# Altium footprint library IDC Connector.PcbLib: 112 footprints (part 4 of 8)
Each footprint in its own frame and in the unit in brackets; x right, y up, seen from the top. Pads: shape width x height; smd on the part's side, far side on the other; paste and mask are expansions set on the pad; w line width, h text height; cw(c..) or ccw(c..) is an arc to the next point about the centre after c.
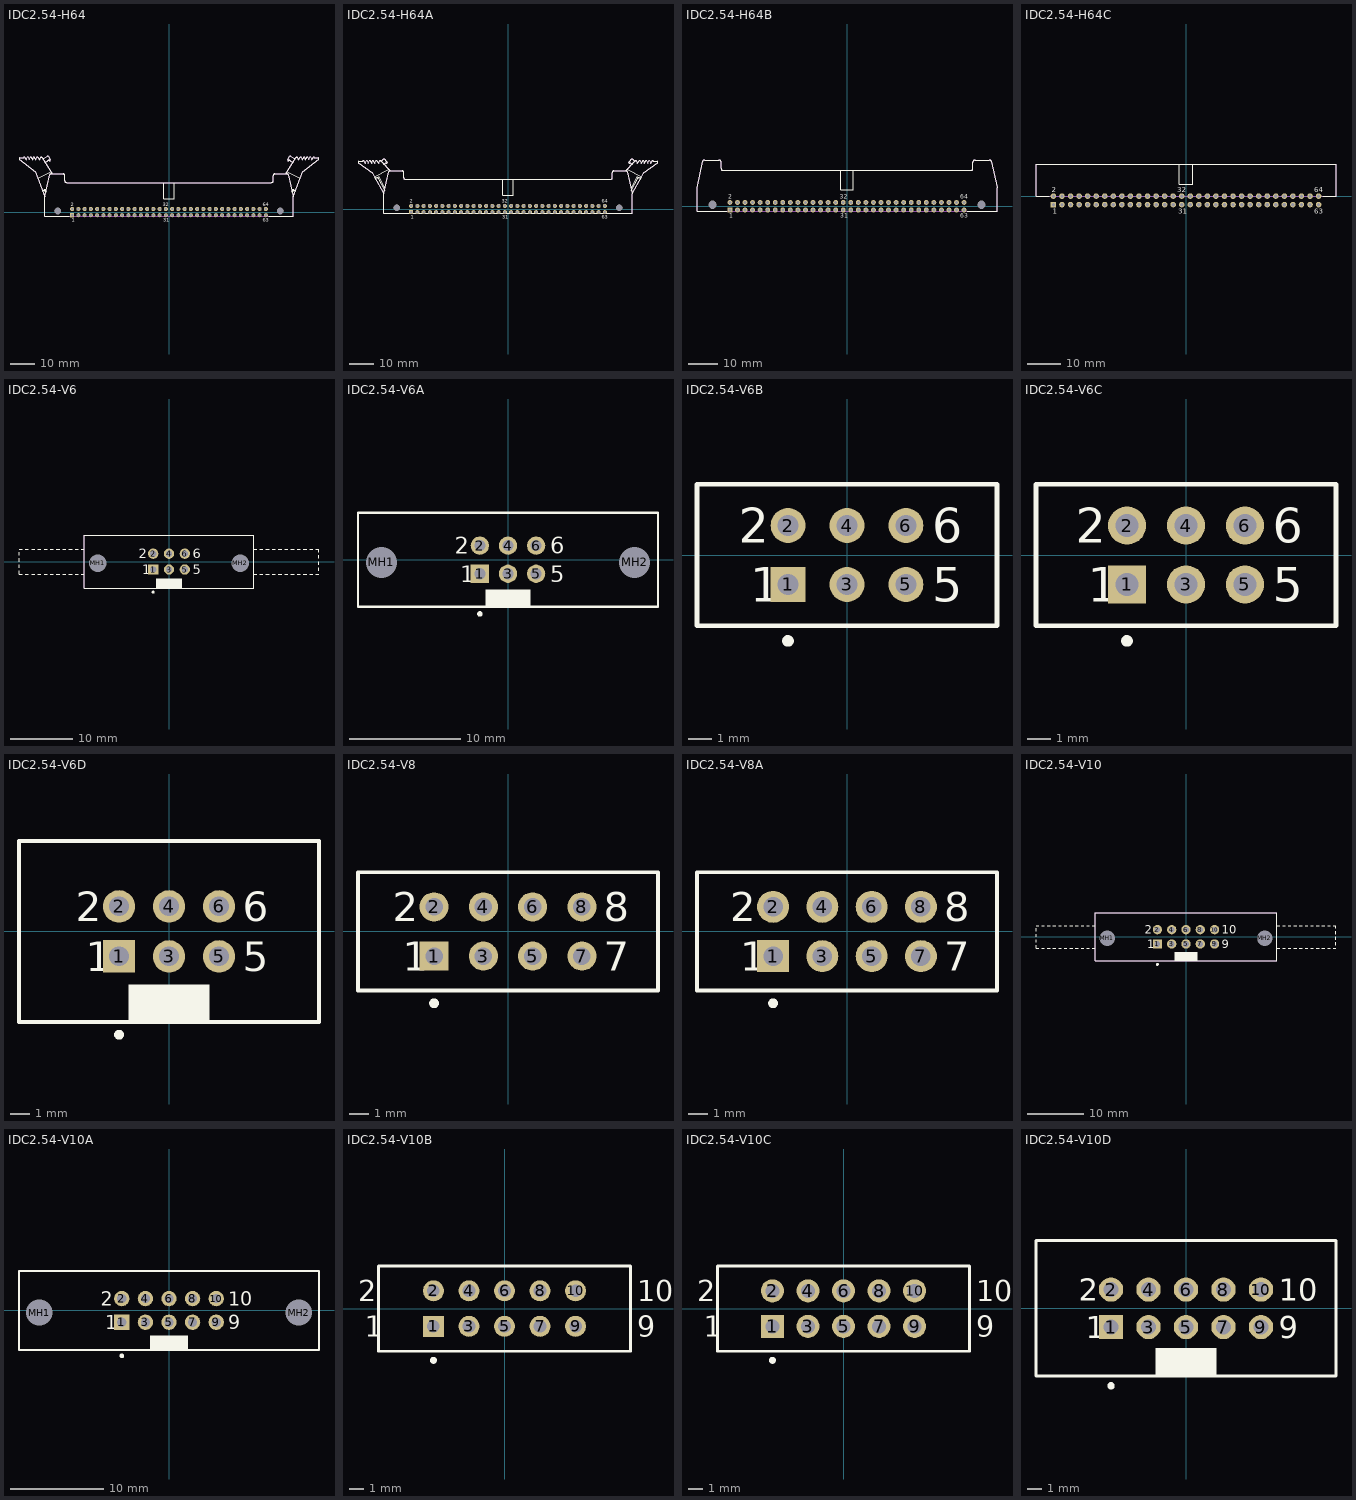
[diagram p3: the footprints below, top view; thin cyan lines are the x and y axes]

## IDC2.54-H64 [mm] "Connector; IDC, Thru-Hole; 64 Position; Right Angle; Pitch 2.54 mm; Body 100.88 x 8.5 x 25.75 mm (LxHxW), Locking levers"
height 8.5
pads (66):
  rect 1.65x1.65 hole 1: 1(-39.37,-1.27)
  round 1.65 hole 1: 2(-39.37,1.27) 3(-36.83,-1.27) 4(-36.83,1.27) 5(-34.29,-1.27) 6(-34.29,1.27) 7(-31.75,-1.27) 8(-31.75,1.27) 9(-29.21,-1.27) 10(-29.21,1.27) 11(-26.67,-1.27) 12(-26.67,1.27) 13(-24.13,-1.27) 14(-24.13,1.27) 15(-21.59,-1.27) 16(-21.59,1.27) 17(-19.05,-1.27) 18(-19.05,1.27) 19(-16.51,-1.27) 20(-16.51,1.27) 21(-13.97,-1.27) 22(-13.97,1.27) 23(-11.43,-1.27) 24(-11.43,1.27) 25(-8.89,-1.27) 26(-8.89,1.27) 27(-6.35,-1.27) 28(-6.35,1.27) 29(-3.81,-1.27) 30(-3.81,1.27) 31(-1.27,-1.27) 32(-1.27,1.27) 33(1.27,-1.27) 34(1.27,1.27) 35(3.81,-1.27) 36(3.81,1.27) 37(6.35,-1.27) 38(6.35,1.27) 39(8.89,-1.27) 40(8.89,1.27) 41(11.43,-1.27) 42(11.43,1.27) 43(13.97,-1.27) 44(13.97,1.27) 45(16.51,-1.27) 46(16.51,1.27) 47(19.05,-1.27) 48(19.05,1.27) 49(21.59,-1.27) 50(21.59,1.27) 51(24.13,-1.27) 52(24.13,1.27) 53(26.67,-1.27) 54(26.67,1.27) 55(29.21,-1.27) 56(29.21,1.27) 57(31.75,-1.27) 58(31.75,1.27) 59(34.29,-1.27) 60(34.29,1.27) 61(36.83,-1.27) 62(36.83,1.27) 63(39.37,-1.27) 64(39.37,1.27)
  round 2.5 hole 2.8 unplated: MH1(-45.21,0.53) MH2(45.21,0.53)
Top Overlay:
  lines w0.2: -51.41,8.851 -50.445,9.3 ; -51.281,8.563 -50.61,8.877 ; -51.275,21.6 -49.552,22.725 cw(c-49.403,22.387) -49.137,22.644 -48.212,21.245 cw(c-48.532,21.225) -48.584,20.91 ccw(c-48.852,20.595) -48.987,20.985 ; -50.353,20.103 -48.99,20.991 ; -50.083,7.925 -50.61,8.877 ; -49.983,8.378 -50.445,9.3 ; -48.055,16.383 -53.279,13.84 ; -47.9,15.53 -43.055,15.53 cw(c-43.055,14.83) -42.355,14.83 -42.355,12.73 ccw(c-41.655,12.73) -41.655,12.03 41.655,12.03 ccw(c41.655,12.73) 42.355,12.73 42.355,14.83 cw(c43.055,14.83) 43.055,15.53 47.9,15.53 ; -47.89,15.53 ccw(c-47.905,14.83) -48.55,15.102 -50.44,6.23 ; -47.484,15.53 -51.618,22.058 ccw(c-51.941,21.956) -52.083,22.265 -52.49,21.301 -53.52,22.501 -54.15,21.301 -54.9,22.501 -55.45,21.301 -56.15,22.501 -56.77,21.301 -57.42,22.501 -58.02,21.301 -58.765,22.501 ; -40.595,-1.77 -50.44,-1.77 -50.44,6.23 ; -2.05,5.53 -2.05,12.03 ; -2.04,5.53 2.06,5.53 ; 2.05,5.534 2.05,12.03 ; 40.48,-1.77 50.44,-1.77 50.44,6.23 ; 47.484,15.53 51.618,22.058 cw(c51.941,21.956) 52.083,22.265 52.49,21.301 53.52,22.501 54.15,21.301 54.9,22.501 55.45,21.301 56.15,22.501 56.77,21.301 57.42,22.501 58.02,21.301 58.765,22.501 ; 47.89,15.53 cw(c47.905,14.83) 48.55,15.102 50.44,6.23 ; 48.055,16.383 53.279,13.84 ; 48.987,20.985 ccw(c48.852,20.595) 48.584,20.91 cw(c48.532,21.225) 48.212,21.245 49.137,22.644 cw(c49.403,22.387) 49.552,22.725 51.275,21.6 ; 48.99,20.991 50.353,20.103 ; 49.983,8.378 50.445,9.3 ; 50.083,7.925 50.61,8.877 ; 51.281,8.563 50.61,8.877 ; 51.41,8.851 50.445,9.3 ; -59.02,22.03 -60.631,22.03 ccw(c-60.631,21.69) -60.94,21.549 -54.405,16.455 -53.279,13.84 ; -59.02,22.03 -58.765,22.501 ; -59.02,22.03 -58.765,22.501 ; -53.279,13.84 -50.44,6.23 ; -50.61,8.877 -50.445,9.3 ; 50.44,6.23 53.279,13.84 ; 50.445,9.3 50.61,8.877 ; 53.279,13.84 54.405,16.455 60.94,21.549 ccw(c60.631,21.69) 60.631,22.03 59.02,22.03 ; 58.765,22.501 59.02,22.03 ; 58.765,22.501 59.02,22.03
  text "31" at -2.27,-3.97 h1.5
  text "32" at -2.52,2.47 h1.5
  text "63" at 38.12,-3.97 h1.5
  text "64" at 38.12,2.47 h1.5
  text "1" at -39.62,-3.97 h1.5
  text "2" at -39.87,2.47 h1.5
Mechanical 13:
  lines w0.1: -51.275,21.6 -49.552,22.725 cw(c-49.403,22.387) -49.137,22.644 -48.212,21.245 cw(c-48.532,21.225) -48.584,20.91 ccw(c-48.852,20.595) -48.987,20.985 ; -50.353,20.103 -48.99,20.991 ; -47.9,15.53 -43.055,15.53 cw(c-43.055,14.83) -42.355,14.83 -42.355,12.73 ccw(c-41.655,12.73) -41.655,12.03 41.655,12.03 ccw(c41.655,12.73) 42.355,12.73 42.355,14.83 cw(c43.055,14.83) 43.055,15.53 47.9,15.53 ; -47.89,15.53 ccw(c-47.905,14.83) -48.55,15.102 -50.44,6.23 ; -47.484,15.53 -51.618,22.058 ccw(c-51.941,21.956) -52.083,22.265 -52.49,21.301 -53.52,22.501 -54.15,21.301 -54.9,22.501 -55.45,21.301 -56.15,22.501 -56.77,21.301 -57.42,22.501 -58.02,21.301 -58.765,22.501 ; 47.484,15.53 51.618,22.058 cw(c51.941,21.956) 52.083,22.265 52.49,21.301 53.52,22.501 54.15,21.301 54.9,22.501 55.45,21.301 56.15,22.501 56.77,21.301 57.42,22.501 58.02,21.301 58.765,22.501 ; 47.89,15.53 cw(c47.905,14.83) 48.55,15.102 50.44,6.23 ; 48.987,20.985 ccw(c48.852,20.595) 48.584,20.91 cw(c48.532,21.225) 48.212,21.245 49.137,22.644 cw(c49.403,22.387) 49.552,22.725 51.275,21.6 ; 48.99,20.991 50.353,20.103 ; -59.02,22.03 -58.765,22.501 ; -59.02,22.03 -60.631,22.03 ccw(c-60.631,21.69) -60.94,21.549 -54.405,16.455 -53.279,13.84 -50.44,6.23 ; -59.02,22.03 -58.765,22.501 ; -50.44,6.23 -50.44,-1.77 50.44,-1.77 50.44,6.23 ; 50.44,6.23 53.279,13.84 54.405,16.455 60.94,21.549 ccw(c60.631,21.69) 60.631,22.03 59.02,22.03 ; 58.765,22.501 59.02,22.03 ; 58.765,22.501 59.02,22.03
3D body: height 8.5, standoff 0, extent -50.441,-1.771 50.441,15.533

## IDC2.54-H64A [mm] "Connector; IDC, Thru-Hole; 64 Position; Right Angle; Pitch 2.54 mm; Body 100.88 x 8.5 x 23.30 mm (LxHxW), Locking levers"
height 8.5
pads (66):
  rect 1.65x1.65 hole 1: 1(-39.37,-1.27)
  round 1.65 hole 1: 2(-39.37,1.27) 3(-36.83,-1.27) 4(-36.83,1.27) 5(-34.29,-1.27) 6(-34.29,1.27) 7(-31.75,-1.27) 8(-31.75,1.27) 9(-29.21,-1.27) 10(-29.21,1.27) 11(-26.67,-1.27) 12(-26.67,1.27) 13(-24.13,-1.27) 14(-24.13,1.27) 15(-21.59,-1.27) 16(-21.59,1.27) 17(-19.05,-1.27) 18(-19.05,1.27) 19(-16.51,-1.27) 20(-16.51,1.27) 21(-13.97,-1.27) 22(-13.97,1.27) 23(-11.43,-1.27) 24(-11.43,1.27) 25(-8.89,-1.27) 26(-8.89,1.27) 27(-6.35,-1.27) 28(-6.35,1.27) 29(-3.81,-1.27) 30(-3.81,1.27) 31(-1.27,-1.27) 32(-1.27,1.27) 33(1.27,-1.27) 34(1.27,1.27) 35(3.81,-1.27) 36(3.81,1.27) 37(6.35,-1.27) 38(6.35,1.27) 39(8.89,-1.27) 40(8.89,1.27) 41(11.43,-1.27) 42(11.43,1.27) 43(13.97,-1.27) 44(13.97,1.27) 45(16.51,-1.27) 46(16.51,1.27) 47(19.05,-1.27) 48(19.05,1.27) 49(21.59,-1.27) 50(21.59,1.27) 51(24.13,-1.27) 52(24.13,1.27) 53(26.67,-1.27) 54(26.67,1.27) 55(29.21,-1.27) 56(29.21,1.27) 57(31.75,-1.27) 58(31.75,1.27) 59(34.29,-1.27) 60(34.29,1.27) 61(36.83,-1.27) 62(36.83,1.27) 63(39.37,-1.27) 64(39.37,1.27)
  round 2.5 hole 2.8 unplated: MH1(-45.21,0.53) MH2(45.21,0.53)
Top Overlay:
  lines w0.1: -41,-1.77 40.48,-1.77
  lines w0.2: -54.109,12.722 -52.621,13.218 ; -53.881,12.377 -52.863,12.716 ; -50.478,18.198 -49.913,18.617 cw(c-49.777,18.227) -49.51,18.542 ccw(c-49.457,18.857) -49.138,18.877 -50.197,20.156 ccw(c-50.463,19.899) -50.612,20.238 -51.618,19.388 ; -50.193,7.442 -52.863,12.716 ; -50.046,8.195 -52.621,13.218 ; -48.56,16.204 -54.379,13.199 ; -47.947,15.533 -51.618,19.388 ; -47.9,15.53 -43.055,15.53 cw(c-43.055,14.83) -42.355,14.83 -42.355,12.73 ccw(c-41.655,12.73) -41.655,12.03 41.655,12.03 ccw(c41.655,12.73) 42.355,12.73 42.355,14.83 cw(c43.055,14.83) 43.055,15.53 47.9,15.53 ; -47.89,15.53 ccw(c-47.905,14.83) -48.55,15.102 -50.44,6.23 ; -40.595,-1.77 -50.44,-1.77 -50.44,6.23 ; -2.05,5.53 -2.05,12.03 ; -2.04,5.53 2.06,5.53 ; 2.05,5.534 2.05,12.03 ; 40.48,-1.77 50.44,-1.77 50.44,6.23 ; 47.89,15.53 cw(c47.905,14.83) 48.55,15.102 50.44,6.23 ; 47.947,15.533 51.618,19.388 ; 48.56,16.204 54.379,13.199 ; 50.046,8.195 52.621,13.218 ; 50.193,7.442 52.863,12.716 ; 50.478,18.198 49.913,18.617 ccw(c49.777,18.227) 49.51,18.542 cw(c49.457,18.857) 49.138,18.877 50.197,20.156 cw(c50.463,19.899) 50.612,20.238 51.618,19.388 ; 53.881,12.377 52.863,12.716 ; 54.109,12.722 52.621,13.218 ; -59.02,19.359 -60.631,19.359 ccw(c-60.631,19.02) -60.94,18.879 -55.185,14.654 -54.379,13.199 ; -59.02,19.359 -58.764,19.83 ; -59.02,19.359 -58.764,19.83 ; -58.764,19.83 -58.02,18.63 -57.42,19.83 -56.77,18.63 -56.15,19.83 -55.45,18.63 -54.9,19.83 -54.15,18.63 -53.52,19.83 -52.49,18.63 -52.083,19.594 cw(c-51.941,19.285) -51.618,19.388 ; -54.379,13.199 -50.44,6.23 ; -52.863,12.716 -52.621,13.218 ; 50.44,6.23 54.379,13.199 ; 51.618,19.388 cw(c51.941,19.285) 52.083,19.594 52.49,18.63 53.52,19.83 54.15,18.63 54.9,19.83 55.45,18.63 56.15,19.83 56.77,18.63 57.42,19.83 58.02,18.63 58.764,19.83 ; 52.621,13.218 52.863,12.716 ; 54.379,13.199 55.185,14.654 60.94,18.879 ccw(c60.631,19.02) 60.631,19.359 59.02,19.359 ; 58.764,19.83 59.02,19.359 ; 58.764,19.83 59.02,19.359
  text "31" at -2.27,-3.97 h1.5
  text "32" at -2.52,2.47 h1.5
  text "2" at -39.87,2.47 h1.5
  text "1" at -39.62,-3.97 h1.5
  text "64" at 38.12,2.47 h1.5
  text "63" at 38.12,-3.97 h1.5
Mechanical 13:
  lines w0.1: -50.478,18.198 -49.913,18.617 cw(c-49.777,18.227) -49.51,18.542 ccw(c-49.457,18.857) -49.138,18.877 -50.197,20.156 ccw(c-50.463,19.899) -50.612,20.238 -51.618,19.388 ; -47.947,15.533 -51.618,19.388 ; -47.9,15.53 -43.055,15.53 cw(c-43.055,14.83) -42.355,14.83 -42.355,12.73 ccw(c-41.655,12.73) -41.655,12.03 41.655,12.03 ccw(c41.655,12.73) 42.355,12.73 42.355,14.83 cw(c43.055,14.83) 43.055,15.53 47.9,15.53 ; -47.89,15.53 ccw(c-47.905,14.83) -48.55,15.102 -50.44,6.23 ; 47.89,15.53 cw(c47.905,14.83) 48.55,15.102 50.44,6.23 ; 47.947,15.533 51.618,19.388 ; 50.478,18.198 49.913,18.617 ccw(c49.777,18.227) 49.51,18.542 cw(c49.457,18.857) 49.138,18.877 50.197,20.156 cw(c50.463,19.899) 50.612,20.238 51.618,19.388 ; -59.02,19.359 -58.764,19.83 ; -59.02,19.359 -58.764,19.83 ; -59.02,19.359 -60.631,19.359 ccw(c-60.631,19.02) -60.94,18.879 -55.185,14.654 -54.379,13.199 -50.44,6.23 ; -58.764,19.83 -58.02,18.63 -57.42,19.83 -56.77,18.63 -56.15,19.83 -55.45,18.63 -54.9,19.83 -54.15,18.63 -53.52,19.83 -52.49,18.63 -52.083,19.594 cw(c-51.941,19.285) -51.618,19.388 ; -50.44,6.23 -50.44,-1.77 50.44,-1.77 50.44,6.23 ; 50.44,6.23 54.379,13.199 55.185,14.654 60.94,18.879 ccw(c60.631,19.02) 60.631,19.359 59.02,19.359 ; 51.618,19.388 cw(c51.941,19.285) 52.083,19.594 52.49,18.63 53.52,19.83 54.15,18.63 54.9,19.83 55.45,18.63 56.15,19.83 56.77,18.63 57.42,19.83 58.02,18.63 58.764,19.83 ; 58.764,19.83 59.02,19.359 ; 58.764,19.83 59.02,19.359
3D body: height 8.5, standoff 0, extent -50.441,-1.771 50.441,15.533

## IDC2.54-H64B [mm] "Connector; IDC, Thru-Hole; 64 Position; Right Angle; Pitch 2.54 mm; Body 100.88 x 8.5 x 17.30 mm (LxHxW), Without locking levers"
height 8.5
pads (66):
  rect 1.65x1.65 hole 1: 1(-39.37,-1.27)
  round 1.65 hole 1: 2(-39.37,1.27) 3(-36.83,-1.27) 4(-36.83,1.27) 5(-34.29,-1.27) 6(-34.29,1.27) 7(-31.75,-1.27) 8(-31.75,1.27) 9(-29.21,-1.27) 10(-29.21,1.27) 11(-26.67,-1.27) 12(-26.67,1.27) 13(-24.13,-1.27) 14(-24.13,1.27) 15(-21.59,-1.27) 16(-21.59,1.27) 17(-19.05,-1.27) 18(-19.05,1.27) 19(-16.51,-1.27) 20(-16.51,1.27) 21(-13.97,-1.27) 22(-13.97,1.27) 23(-11.43,-1.27) 24(-11.43,1.27) 25(-8.89,-1.27) 26(-8.89,1.27) 27(-6.35,-1.27) 28(-6.35,1.27) 29(-3.81,-1.27) 30(-3.81,1.27) 31(-1.27,-1.27) 32(-1.27,1.27) 33(1.27,-1.27) 34(1.27,1.27) 35(3.81,-1.27) 36(3.81,1.27) 37(6.35,-1.27) 38(6.35,1.27) 39(8.89,-1.27) 40(8.89,1.27) 41(11.43,-1.27) 42(11.43,1.27) 43(13.97,-1.27) 44(13.97,1.27) 45(16.51,-1.27) 46(16.51,1.27) 47(19.05,-1.27) 48(19.05,1.27) 49(21.59,-1.27) 50(21.59,1.27) 51(24.13,-1.27) 52(24.13,1.27) 53(26.67,-1.27) 54(26.67,1.27) 55(29.21,-1.27) 56(29.21,1.27) 57(31.75,-1.27) 58(31.75,1.27) 59(34.29,-1.27) 60(34.29,1.27) 61(36.83,-1.27) 62(36.83,1.27) 63(39.37,-1.27) 64(39.37,1.27)
  round 2.5 hole 2.8 unplated: MH1(-45.21,0.53) MH2(45.21,0.53)
Top Overlay:
  lines w0.2: -48.56,15.102 -50.44,6.23 -50.44,-1.77 -40.48,-1.77 ; -48.56,15.102 cw(c-47.915,14.83) -47.9,15.53 -43.055,15.53 cw(c-43.055,14.83) -42.355,14.83 -42.355,12.73 ccw(c-41.655,12.73) -41.655,12.03 41.655,12.03 ccw(c41.655,12.73) 42.355,12.73 42.355,14.83 cw(c43.055,14.83) 43.055,15.53 47.9,15.53 ; -2.05,5.53 -2.05,12.03 ; -2.04,5.53 2.06,5.53 ; 2.05,5.534 2.05,12.03 ; 40.48,-1.77 50.44,-1.77 50.44,6.23 48.55,15.102 ccw(c47.905,14.83) 47.89,15.53
  text "63" at 38.12,-3.97 h1.5
  text "64" at 38.12,2.47 h1.5
  text "1" at -39.62,-3.97 h1.5
  text "2" at -39.87,2.47 h1.5
  text "32" at -2.52,2.47 h1.5
  text "31" at -2.27,-3.97 h1.5
Mechanical 13:
  lines w0.1: -48.56,15.102 -50.44,6.23 -50.44,-1.77 50.44,-1.77 50.44,6.23 48.55,15.102 ccw(c47.905,14.83) 47.89,15.53 ; -48.56,15.102 cw(c-47.915,14.83) -47.9,15.53 -43.055,15.53 cw(c-43.055,14.83) -42.355,14.83 -42.355,12.73 ccw(c-41.655,12.73) -41.655,12.03 41.655,12.03 ccw(c41.655,12.73) 42.355,12.73 42.355,14.83 cw(c43.055,14.83) 43.055,15.53 47.9,15.53
3D body: height 8.5, standoff 0, extent -50.441,-1.771 50.441,15.533

## IDC2.54-H64C [mm] "Connector; IDC, Low Profile Male Header, Thru-Hole; 64 Position; Right Angle; Pitch 2.54 mm; Body 89.10 x 8.9 x 9.2 mm (LxWxH)"
height 9.2
pads (64):
  rect 1.65x1.65 hole 1: 1(-39.37,-2.54)
  round 1.65 hole 1: 2(-39.37,0) 3(-36.83,-2.54) 4(-36.83,0) 5(-34.29,-2.54) 6(-34.29,0) 7(-31.75,-2.54) 8(-31.75,0) 9(-29.21,-2.54) 10(-29.21,0) 11(-26.67,-2.54) 12(-26.67,0) 13(-24.13,-2.54) 14(-24.13,0) 15(-21.59,-2.54) 16(-21.59,0) 17(-19.05,-2.54) 18(-19.05,0) 19(-16.51,-2.54) 20(-16.51,0) 21(-13.97,-2.54) 22(-13.97,0) 23(-11.43,-2.54) 24(-11.43,0) 25(-8.89,-2.54) 26(-8.89,0) 27(-6.35,-2.54) 28(-6.35,0) 29(-3.81,-2.54) 30(-3.81,0) 31(-1.27,-2.54) 32(-1.27,0) 33(1.27,-2.54) 34(1.27,0) 35(3.81,-2.54) 36(3.81,0) 37(6.35,-2.54) 38(6.35,0) 39(8.89,-2.54) 40(8.89,0) 41(11.43,-2.54) 42(11.43,0) 43(13.97,-2.54) 44(13.97,0) 45(16.51,-2.54) 46(16.51,0) 47(19.05,-2.54) 48(19.05,0) 49(21.59,-2.54) 50(21.59,0) 51(24.13,-2.54) 52(24.13,0) 53(26.67,-2.54) 54(26.67,0) 55(29.21,-2.54) 56(29.21,0) 57(31.75,-2.54) 58(31.75,0) 59(34.29,-2.54) 60(34.29,0) 61(36.83,-2.54) 62(36.83,0) 63(39.37,-2.54) 64(39.37,0)
Top Overlay:
  lines w0.2: -40.595,0 -44.55,0 -44.55,9.45 44.55,9.45 44.55,0 40.595,0 ; -2.05,9.45 -2.05,3.48 2.05,3.48 2.05,9.45
  text "1" at -39.62,-5.24 h1.5
  text "2" at -39.87,1.2 h1.5
  text "31" at -2.25,-5.24 h1.5
  text "32" at -2.54,1.2 h1.5
  text "63" at 38.12,-5.24 h1.5
  text "64" at 38.12,1.2 h1.5
Mechanical 13:
  lines w0.1: -44.55,0 -44.55,9.45 44.55,9.45 44.55,0 -44.55,0
3D body: height 9.2, standoff 0, extent -44.55,0 44.55,9.45

## IDC2.54-V6 [mm] "Connector; IDC, Thru-Hole; 6 Position; Vertical; Pitch 2.54 mm; Body 27.10 x 8.5 x 25.75 mm (LxWxH), Locking levers"
height 25.75
pads (8):
  rect 1.65x1.65 hole 1: 1(-2.54,-1.27)
  round 1.65 hole 1: 2(-2.54,1.27) 3(0,-1.27) 4(0,1.27) 5(2.54,-1.27) 6(2.54,1.27)
  round 2.5 hole 2.8 unplated: MH1(-11.43,-0.25) MH2(11.43,-0.25)
Top Overlay:
  circle w0.25: c-2.54,-4.9 r0.125
  rectangle: -2.05,-4.25 2.05,-2.7
  lines w0.2: -24.05,-1 -24.05,-0.5 ; -24.05,0 -24.05,0.5 ; -24.05,1 -24.05,1.5 ; -24.05,2 -23.54,2 ; -24.04,-1.5 -24.05,-2 -23.54,-2 ; -23.04,-2 -22.54,-2 ; -23.04,2 -22.54,2 ; -22.04,-2 -21.54,-2 ; -22.04,2 -21.54,2 ; -21.04,-2 -20.54,-2 ; -21.04,2 -20.54,2 ; -20.04,-2 -19.54,-2 ; -20.04,2 -19.54,2 ; -19.04,-2 -18.54,-2 ; -19.04,2 -18.54,2 ; -18.04,-2 -17.54,-2 ; -18.04,2 -17.54,2 ; -17.04,-2 -16.54,-2 ; -17.04,2 -16.54,2 ; -16.04,-2 -15.54,-2 ; -16.04,2 -15.54,2 ; -15.04,-2 -14.54,-2 ; -15.04,2 -14.54,2 ; -14.04,-2 -13.55,-2 ; -14.04,2 -13.55,2 ; 13.55,-2 14.05,-2 ; 13.55,2 14.05,2 ; 14.55,-2 15.05,-2 ; 14.55,2 15.05,2 ; 15.55,-2 16.05,-2 ; 15.55,2 16.05,2 ; 16.55,-2 17.05,-2 ; 16.55,2 17.05,2 ; 17.55,-2 18.05,-2 ; 17.55,2 18.05,2 ; 18.55,-2 19.05,-2 ; 18.55,2 19.05,2 ; 19.55,-2 20.05,-2 ; 19.55,2 20.05,2 ; 20.55,-2 21.05,-2 ; 20.55,2 21.05,2 ; 21.55,-2 22.05,-2 ; 21.55,2 22.05,2 ; 22.55,-2 23.05,-2 ; 22.55,2 23.05,2 ; 23.55,-2 24.05,-2 ; 23.55,2 24.05,2 24.05,1.5 ; 24.05,-1.5 24.05,-1 ; 24.05,-0.5 24.05,0 ; 24.05,0.5 24.05,1 ; -13.55,-4.25 -13.55,4.25 13.55,4.25 13.55,-4.25 -13.55,-4.25
  text "5" at 3.82,-2.02 h1.5
  text "6" at 3.82,0.52 h1.5
  text "1" at -4.32,-2.02 h1.5
  text "2" at -4.82,0.52 h1.5
Mechanical 13:
  lines w0.1: -13.55,-4.25 13.55,-4.25 13.55,4.25 -13.55,4.25 -13.55,-4.25
3D body: height 25.75, standoff 0, extent -13.549,-4.249 13.549,4.249

## IDC2.54-V6A [mm] "Connector; IDC, Thru-Hole; 6 Position; Vertical; Pitch 2.54 mm; Body 26.90 x 8.5 x 17.30 mm (LxWxH), Without locking levers"
height 17.3
pads (8):
  rect 1.65x1.65 hole 1: 1(-2.54,-1.27)
  round 1.65 hole 1: 2(-2.54,1.27) 3(0,-1.27) 4(0,1.27) 5(2.54,-1.27) 6(2.54,1.27)
  round 2.5 hole 2.8 unplated: MH1(-11.43,-0.25) MH2(11.43,-0.25)
Top Overlay:
  circle w0.25: c-2.54,-4.9 r0.125
  rectangle: -2.05,-4.25 2.05,-2.7
  lines w0.2: -13.55,-4.25 13.55,-4.25 13.55,4.25 -13.55,4.25 -13.55,-4.25
  text "5" at 3.82,-2.02 h1.5
  text "6" at 3.82,0.52 h1.5
  text "1" at -4.32,-2.02 h1.5
  text "2" at -4.82,0.52 h1.5
Mechanical 13:
  lines w0.1: -13.55,-4.25 -13.55,4.25 13.55,4.25 13.55,-4.25 -13.55,-4.25
3D body: height 17.3, standoff 0, extent -13.55,-4.25 13.55,4.25

## IDC2.54-V6B [mm] "Connector; IDC, PCB Transition - 2 Rows, Thru-Hole; 6 Position; Vertical; Pitch 2.54 mm; Body 12.92 x 6.1 x 7.45 mm (LxWxH)"
height 7.45
pads (6):
  rect 1.5x1.5 hole 0.9: 1(-2.54,-1.27)
  round 1.5 hole 0.9: 2(-2.54,1.27) 3(0,-1.27) 4(0,1.27) 5(2.54,-1.27) 6(2.54,1.27)
Top Overlay:
  circle w0.25: c-2.54,-3.7 r0.125
  lines w0.2: -6.46,-3.05 6.46,-3.05 6.46,3.05 -6.46,3.05 -6.46,-3.05
  text "5" at 3.665,-2.02 h1.5
  text "6" at 3.665,0.52 h1.5
  text "1" at -4.165,-2.02 h1.5
  text "2" at -4.665,0.52 h1.5
Mechanical 13:
  lines w0.1: -6.46,-3.05 -6.46,3.05 6.46,3.05 6.46,-3.05 -6.46,-3.05
3D body: height 7.45, standoff 0, extent -6.46,-3.05 6.46,3.05

## IDC2.54-V6C [mm] "Connector; IDC, PCB Transition - 2 Rows, Thru-Hole; 6 Position; Vertical; Pitch 2.54 mm; Body 12.92 x 6.1 x 7.45 mm (LxWxH), Kinked Contacts"
height 7.45
pads (6):
  rect 1.65x1.65 hole 1: 1(-2.54,-1.27)
  round 1.65 hole 1: 2(-2.54,1.27) 3(0,-1.27) 4(0,1.27) 5(2.54,-1.27) 6(2.54,1.27)
Top Overlay:
  circle w0.25: c-2.54,-3.7 r0.125
  lines w0.2: -6.46,-3.05 6.46,-3.05 6.46,3.05 -6.46,3.05 -6.46,-3.05
  text "5" at 3.74,-2.02 h1.5
  text "6" at 3.74,0.52 h1.5
  text "1" at -4.24,-2.02 h1.5
  text "2" at -4.74,0.52 h1.5
Mechanical 13:
  lines w0.1: -6.46,-3.05 6.46,-3.05 6.46,3.05 -6.46,3.05 -6.46,-3.05
3D body: height 7.45, standoff 0, extent -6.46,-3.05 6.46,3.05

## IDC2.54-V6D [mm] "Connector; IDC, Low Profile Male Header, Thru-Hole; 6 Position; Vertical; Pitch 2.54 mm; Body 15.24 x 9.2 x 9.45 mm (LxWxH)"
height 9.45
pads (6):
  rect 1.65x1.65 hole 1: 1(-2.54,-1.27)
  round 1.65 hole 1: 2(-2.54,1.27) 3(0,-1.27) 4(0,1.27) 5(2.54,-1.27) 6(2.54,1.27)
Top Overlay:
  circle w0.25: c-2.54,-5.25 r0.125
  rectangle: -2.05,-4.6 2.05,-2.7
  lines w0.2: -7.62,-4.6 -7.62,4.6 7.62,4.6 7.62,-4.6 -7.62,-4.6
  text "2" at -4.74,0.52 h1.5
  text "1" at -4.24,-2.02 h1.5
  text "6" at 3.74,0.52 h1.5
  text "5" at 3.74,-2.02 h1.5
Mechanical 13:
  lines w0.1: -7.62,-4.6 7.62,-4.6 7.62,4.6 -7.62,4.6 -7.62,-4.6
3D body: height 9.45, standoff 0, extent -7.62,-4.6 7.62,4.6

## IDC2.54-V8 [mm] "Connector; IDC, PCB Transition - 2 Rows, Thru-Hole; 8 Position; Vertical; Pitch 2.54 mm; Body 15.46 x 6.1 x 7.45 mm (LxWxH)"
height 7.45
pads (8):
  rect 1.5x1.5 hole 0.9: 1(-3.81,-1.27)
  round 1.5 hole 0.9: 2(-3.81,1.27) 3(-1.27,-1.27) 4(-1.27,1.27) 5(1.27,-1.27) 6(1.27,1.27) 7(3.81,-1.27) 8(3.81,1.27)
Top Overlay:
  circle w0.25: c-3.81,-3.7 r0.125
  lines w0.2: -7.73,-3.05 7.73,-3.05 7.73,3.05 -7.73,3.05 -7.73,-3.05
  text "7" at 4.935,-2.02 h1.5
  text "8" at 4.935,0.52 h1.5
  text "1" at -5.435,-2.02 h1.5
  text "2" at -5.935,0.52 h1.5
Mechanical 13:
  lines w0.1: -7.73,-3.05 -7.73,3.05 7.73,3.05 7.73,-3.05 -7.73,-3.05
3D body: height 7.45, standoff 0, extent -7.73,-3.05 7.73,3.05

## IDC2.54-V8A [mm] "Connector; IDC, PCB Transition - 2 Rows, Thru-Hole; 8 Position; Vertical; Pitch 2.54 mm; Body 15.46 x 6.1 x 7.45 mm (LxWxH), Kinked Contacts"
height 7.45
pads (8):
  rect 1.65x1.65 hole 1: 1(-3.81,-1.27)
  round 1.65 hole 1: 2(-3.81,1.27) 3(-1.27,-1.27) 4(-1.27,1.27) 5(1.27,-1.27) 6(1.27,1.27) 7(3.81,-1.27) 8(3.81,1.27)
Top Overlay:
  circle w0.25: c-3.81,-3.7 r0.125
  lines w0.2: -7.73,-3.05 7.73,-3.05 7.73,3.05 -7.73,3.05 -7.73,-3.05
  text "7" at 5.01,-2.02 h1.5
  text "8" at 5.01,0.52 h1.5
  text "1" at -5.51,-2.02 h1.5
  text "2" at -6.01,0.52 h1.5
Mechanical 13:
  lines w0.1: -7.73,-3.05 7.73,-3.05 7.73,3.05 -7.73,3.05 -7.73,-3.05
3D body: height 7.45, standoff 0, extent -7.73,-3.05 7.73,3.05

## IDC2.54-V10 [mm] "Connector; IDC, Thru-Hole; 10 Position; Vertical; Pitch 2.54 mm; Body 32.30 x 8.5 x 25.75 mm (LxWxH), Locking levers"
height 25.75
pads (12):
  rect 1.65x1.65 hole 1: 1(-5.08,-1.27)
  round 1.65 hole 1: 2(-5.08,1.27) 3(-2.54,-1.27) 4(-2.54,1.27) 5(0,-1.27) 6(0,1.27) 7(2.54,-1.27) 8(2.54,1.27) 9(5.08,-1.27) 10(5.08,1.27)
  round 2.5 hole 2.8 unplated: MH1(-13.97,-0.25) MH2(13.97,-0.25)
Top Overlay:
  circle w0.25: c-5.08,-4.9 r0.125
  rectangle: -2.05,-4.25 2.05,-2.7
  lines w0.2: -26.65,-1.5 -26.65,-2 -26.15,-2 ; -26.65,-1 -26.65,-0.5 ; -26.65,0 -26.65,0.5 ; -26.65,1 -26.65,1.5 ; -26.65,2 -26.15,2 ; -25.65,-2 -25.15,-2 ; -25.65,2 -25.15,2 ; -24.65,-2 -24.15,-2 ; -24.65,2 -24.15,2 ; -23.65,-2 -23.15,-2 ; -23.65,2 -23.15,2 ; -22.65,-2 -22.15,-2 ; -22.65,2 -22.15,2 ; -21.65,-2 -21.15,-2 ; -21.65,2 -21.15,2 ; -20.65,-2 -20.15,-2 ; -20.65,2 -20.15,2 ; -19.65,-2 -19.15,-2 ; -19.65,2 -19.15,2 ; -18.65,-2 -18.15,-2 ; -18.65,2 -18.15,2 ; -17.65,-2 -17.15,-2 ; -17.65,2 -17.15,2 ; -16.65,-2 -16.15,-2 ; -16.65,2 -16.15,2 ; 16.15,-2 16.65,-2 ; 16.15,2 16.65,2 ; 17.15,-2 17.65,-2 ; 17.15,2 17.65,2 ; 18.15,-2 18.65,-2 ; 18.15,2 18.65,2 ; 19.15,-2 19.65,-2 ; 19.15,2 19.65,2 ; 20.15,-2 20.65,-2 ; 20.15,2 20.65,2 ; 21.15,-2 21.65,-2 ; 21.15,2 21.65,2 ; 22.15,-2 22.65,-2 ; 22.15,2 22.65,2 ; 23.15,-2 23.65,-2 ; 23.15,2 23.65,2 ; 24.15,-2 24.65,-2 ; 24.15,2 24.65,2 ; 25.15,-2 25.65,-2 ; 25.15,2 25.65,2 ; 26.15,-2 26.65,-2 ; 26.15,2 26.65,2 26.65,1.5 ; 26.65,-1.5 26.65,-1 ; 26.65,-0.5 26.65,0 ; 26.65,0.5 26.65,1 ; -16.15,-4.25 -16.15,4.25 16.15,4.25 16.15,-4.25 -16.15,-4.25
  text "9" at 6.36,-2.02 h1.5
  text "10" at 6.36,0.52 h1.5
  text "1" at -6.86,-2.02 h1.5
  text "2" at -7.36,0.52 h1.5
Mechanical 13:
  lines w0.1: -16.15,-4.25 -16.15,4.25 16.15,4.25 16.15,-4.25 -16.15,-4.25
3D body: height 25.75, standoff 0, extent -16.149,-4.249 16.149,4.249

## IDC2.54-V10A [mm] "Connector; IDC, Thru-Hole; 10 Position; Vertical; Pitch 2.54 mm; Body 32.30 x 8.5 x 17.30 mm (LxWxH), Without locking levers"
height 17.3
pads (12):
  rect 1.65x1.65 hole 1: 1(-5.08,-1.27)
  round 1.65 hole 1: 2(-5.08,1.27) 3(-2.54,-1.27) 4(-2.54,1.27) 5(0,-1.27) 6(0,1.27) 7(2.54,-1.27) 8(2.54,1.27) 9(5.08,-1.27) 10(5.08,1.27)
  round 2.5 hole 2.8 unplated: MH1(-13.97,-0.25) MH2(13.97,-0.25)
Top Overlay:
  circle w0.25: c-5.08,-4.9 r0.125
  rectangle: -2.05,-4.25 2.05,-2.7
  lines w0.2: -16.15,-4.25 -16.15,4.25 16.15,4.25 16.15,-4.25 -16.15,-4.25
  text "2" at -7.36,0.52 h1.5
  text "1" at -6.86,-2.02 h1.5
  text "10" at 6.36,0.52 h1.5
  text "9" at 6.36,-2.02 h1.5
Mechanical 13:
  lines w0.1: -16.15,-4.25 -16.15,4.25 16.15,4.25 16.15,-4.25 -16.15,-4.25
3D body: height 17.3, standoff 0, extent -16.15,-4.25 16.15,4.25

## IDC2.54-V10B [mm] "Connector; IDC, PCB Transition - 2 Rows, Thru-Hole; 10 Position; Vertical; Pitch 2.54 mm; Body 18.00 x 6.1 x 7.45 mm (LxWxH)"
height 7.45
pads (10):
  rect 1.5x1.5 hole 0.9: 1(-5.08,-1.27)
  round 1.5 hole 0.9: 2(-5.08,1.27) 3(-2.54,-1.27) 4(-2.54,1.27) 5(0,-1.27) 6(0,1.27) 7(2.54,-1.27) 8(2.54,1.27) 9(5.08,-1.27) 10(5.08,1.27)
Top Overlay:
  circle w0.25: c-5.08,-3.7 r0.125
  lines w0.2: -9,-3.05 9,-3.05 9,3.05 -9,3.05 -9,-3.05
  text "9" at 9.475,-2.02 h1.5
  text "10" at 9.475,0.52 h1.5
  text "1" at -9.975,-2.02 h1.5
  text "2" at -10.475,0.52 h1.5
Mechanical 13:
  lines w0.1: -9,-3.05 -9,3.05 9,3.05 9,-3.05 -9,-3.05
3D body: height 7.45, standoff 0, extent -9,-3.05 9,3.05

## IDC2.54-V10C [mm] "Connector; IDC, PCB Transition - 2 Rows, Thru-Hole; 10 Position; Vertical; Pitch 2.54 mm; Body 18.00 x 6.1 x 7.45 mm (LxWxH), Kinked Contacts"
height 7.45
pads (10):
  rect 1.65x1.65 hole 1: 1(-5.08,-1.27)
  round 1.65 hole 1: 2(-5.08,1.27) 3(-2.54,-1.27) 4(-2.54,1.27) 5(0,-1.27) 6(0,1.27) 7(2.54,-1.27) 8(2.54,1.27) 9(5.08,-1.27) 10(5.08,1.27)
Top Overlay:
  circle w0.25: c-5.08,-3.7 r0.125
  lines w0.2: -9,-3.05 9,-3.05 9,3.05 -9,3.05 -9,-3.05
  text "9" at 9.475,-2.02 h1.5
  text "10" at 9.475,0.52 h1.5
  text "1" at -9.975,-2.02 h1.5
  text "2" at -10.475,0.52 h1.5
Mechanical 13:
  lines w0.1: -9,-3.05 -9,3.05 9,3.05 9,-3.05 -9,-3.05
3D body: height 7.45, standoff 0, extent -9,-3.05 9,3.05

## IDC2.54-V10D [mm] "Connector; IDC, Low Profile Male Header, Thru-Hole; 10 Position; Vertical; Pitch 2.54 mm; Body 20.32 x 9.2 x 9.45 mm (LxWxH)"
height 9.45
pads (10):
  rect 1.65x1.65 hole 1: 1(-5.08,-1.27)
  round 1.65 hole 1: 2(-5.08,1.27) 3(-2.54,-1.27) 4(-2.54,1.27) 5(0,-1.27) 6(0,1.27) 7(2.54,-1.27) 8(2.54,1.27) 9(5.08,-1.27) 10(5.08,1.27)
Top Overlay:
  circle w0.25: c-5.08,-5.25 r0.125
  rectangle: -2.05,-4.6 2.05,-2.7
  lines w0.2: -10.16,-4.6 10.16,-4.6 10.16,4.6 -10.16,4.6 -10.16,-4.6
  text "9" at 6.28,-2.02 h1.5
  text "10" at 6.28,0.52 h1.5
  text "1" at -6.78,-2.02 h1.5
  text "2" at -7.28,0.52 h1.5
Mechanical 13:
  lines w0.1: -10.16,-4.6 -10.16,4.6 10.16,4.6 10.16,-4.6 -10.16,-4.6
3D body: height 9.45, standoff 0, extent -10.16,-4.6 10.16,4.6